# Altium integrated library USBLC6-2P6.IntLib: 1 symbol
Pins are listed as number, name and electrical type; pins without a type are passive.

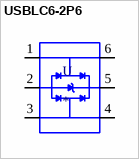
[diagram p0: symbol USBLC6-2P6]

## USBLC6-2P6
designator U
17V Clamp 5A _8/20Âµs_ Ipp Tvs Diode Surface Mount SOT-666; MP: USBLC6-2P6; MF: STMicroelectronics; Value: *; SnapEDA_Link: https://www.snapeda.com/parts/USBLC6-2P6/STMicroelectronics/view-part/106846/?ref=snap; Availability: Unavailable; Price: None; Package: SOT-563 STMicroelectronics
footprint SOT50P160X60-6N
pins: 1 I/O1_1 (io), 2 GND (power), 3 I/O2_1 (io), 4 I/O2_2 (io), 5 VBUS (power), 6 I/O1_2 (io)